# EAGLE library part SN74LVC4245 (library Level_transfer)
SN74LVC4245A is 8-bit (octal) noninverting bus transceiver contains two separate supply rails; B port has VCCB, which is set at 3.3 V, and A port has VCCA, which is set at 5 V. This allows for translation from a 3.3-V to a 5-V environment, and vice versa. The SN74LVC4245A is designed for asynchronous communication between data buses. The device transmits data from the A bus to the B bus or from the B bus to the A bus, depending on the logic level at the direction-control (DIR) input. The output-enable (OE) input can be used to disable the device so the buses are effectively isolated. The control circuitry (DIR, OE) is powered by VCCA. The SN74LVC4245A pinout allows the designer to switch to a normal all-3.3-V or all-5-V 20-pin '245 device without board re-layout. The designer uses the data paths for pins 2–11 and 14–23 of the SN74LVC4245A to align with the conventional '245 pinout.
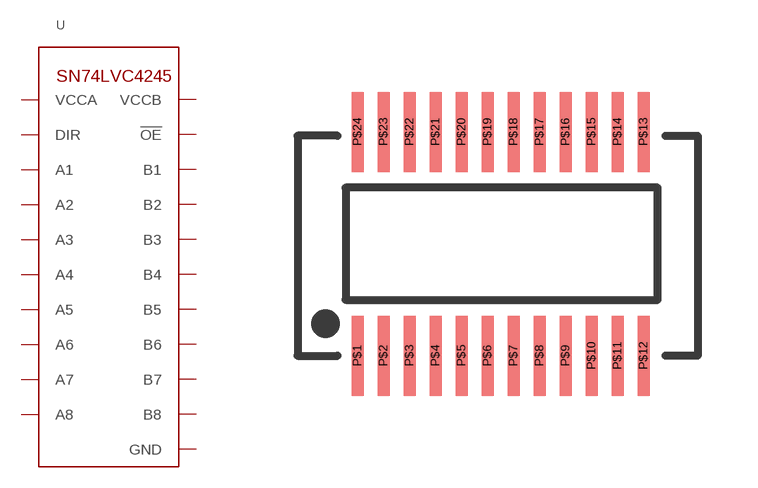
[diagram p0: symbol with the pads of TSSOP-24; footprint TSSOP-24]

Designator prefix U

## SN74LVC4245/TSSOP-24  [TSSOP-24]
P$1  VCCA
P$2  DIR
P$3  A1
P$4  A2
P$5  A3
P$6  A4
P$7  A5
P$8  A6
P$9  A7
P$10  A8
P$11  GND
P$12  GND
P$13  GND
P$14  B8
P$15  B7
P$16  B6
P$17  B5
P$18  B4
P$19  B3
P$20  B2
P$21  B1
P$22  !OE!
P$23  VCCB
P$24  VCCB

## Footprint TSSOP-24 (pad centres in mm)
smd 0.3 x 2: P$1 0,0; P$2 0.65,0; P$3 1.3,0; P$4 1.95,0; P$5 2.6,0; P$6 3.25,0; P$7 3.9,0; P$8 4.55,0; P$9 5.2,0; P$10 5.85,0; P$11 6.5,0; P$12 7.15,0; P$13 7.15,5.6; P$14 6.5,5.6; P$15 5.85,5.6; P$16 5.2,5.6; P$17 4.55,5.6; P$18 3.9,5.6; P$19 3.25,5.6; P$20 2.6,5.6; P$21 1.95,5.6; P$22 1.3,5.6; P$23 0.65,5.6; P$24 0,5.6